# Altium schematic symbol library NodeMcu.SchLib: 3 symbols
Pins are listed as number, name and electrical type; pins without a type are passive.

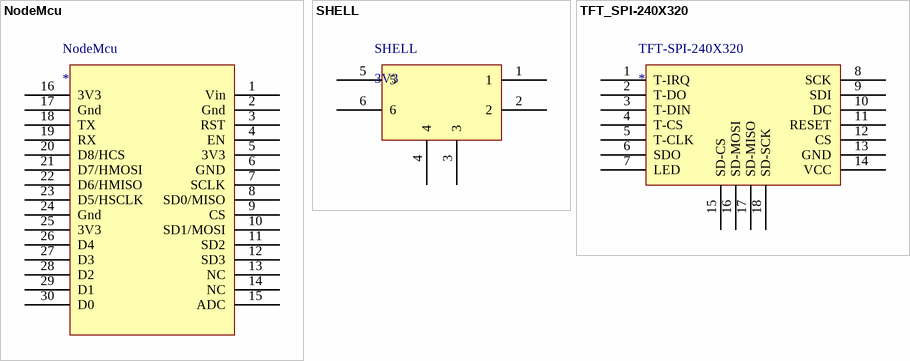
[diagram p0: symbols NodeMcu to TFT_SPI-240X320]

## NodeMcu
designator NodeMcu
footprint NodeMcu (5v)
pins: 1 Vin, 2 Gnd, 3 RST, 4 EN, 5 3V3, 6 GND, 7 SCLK, 8 SD0/MISO, 9 CS, 10 SD1/MOSI, 11 SD2, 12 SD3, 13 NC, 14 NC, 15 ADC, 16 3V3, 17 Gnd, 18 TX, 19 RX, 20 D8/HCS, 21 D7/HMOSI, 22 D6/HMISO, 23 D5/HSCLK, 24 Gnd, 25 3V3, 26 D4, 27 D3, 28 D2, 29 D1, 30 D0

## SHELL
designator SHELL, comment 3V3
footprint SHELL
pins: 1, 2, 3, 4, 5, 6

## TFT_SPI-240X320
designator TFT-SPI-240X320
footprint TFT-SPI-240X320
pins: 1 T-IRQ, 2 T-DO, 3 T-DIN, 4 T-CS, 5 T-CLK, 6 SDO, 7 LED, 8 SCK, 9 SDI, 10 DC, 11 RESET, 12 CS, 13 GND, 14 VCC, 15 SD-CS, 16 SD-MOSI, 17 SD-MISO, 18 SD-SCK